# Altium footprint library gps-neo6m.PcbLib: 1 footprints
Each footprint in its own frame and in the unit in brackets; x right, y up, seen from the top. Pads: shape width x height; smd on the part's side, far side on the other; paste and mask are expansions set on the pad; w line width, h text height; cw(c..) or ccw(c..) is an arc to the next point about the centre after c.
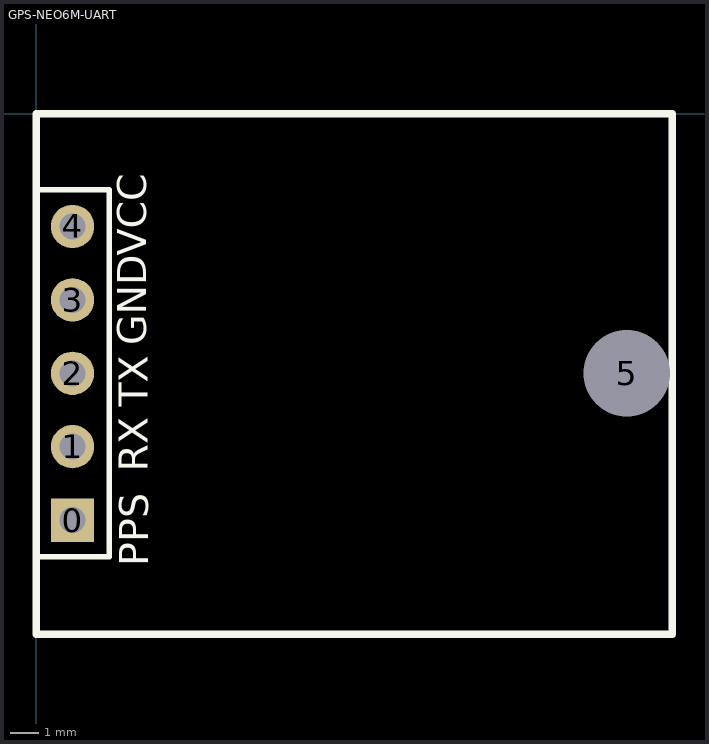
[diagram p0: the footprint, top view; thin cyan lines are the x and y axes]

## GPS-NEO6M-UART [mm]
pads (6):
  rect 1.5x1.5 hole 0.9: 0(1.25,-14.055)
  round 1.5 hole 0.9: 1(1.25,-11.515) 2(1.25,-8.975) 3(1.25,-6.435) 4(1.25,-3.895)
  round 1.524 hole 3: 5(20.425,-8.975)
Top Overlay:
  lines w0.2: -0.02,-15.325 2.52,-15.325 2.52,-2.625 -0.02,-2.625
  lines w0.254: 19.075,-8.975 21.95,-8.975 ; 22,-10 22,-12 22,-16 22,-18 ; 22,-18 0,-18 0,0 22,0 22,-18
  text "VCC" at 3.8,-4.9 h1
  text "GND" at 3.8,-8 h1
  text "TX" at 3.85,-10.125 h1
  text "RX" at 3.85,-12.375 h1
  text "PPS" at 3.875,-15.65 h1